# EAGLE library part USB_MICRO (library Puffin)
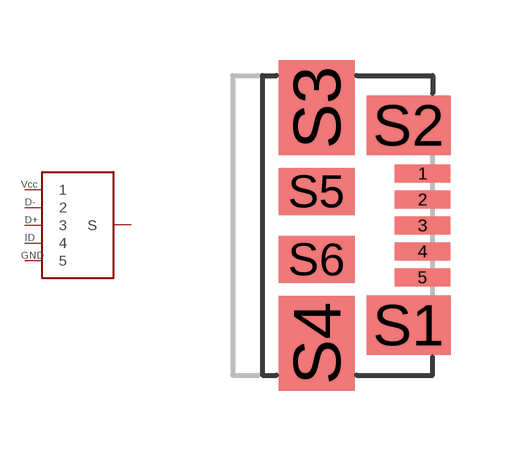
[diagram p9: symbol with the pads of USB_MICROB_MOLEX; footprint USB_MICROB_MOLEX]

Designator prefix -

## USB_MICRO  [USB_MICROB_MOLEX]
1  1  sup
2  2
3  3
4  4  pas
5  5  sup
S1  S
S2  S
S3  S
S4  S
S5  S
S6  S

## Footprint USB_MICROB_MOLEX (pad centres in mm)
smd 1.38 x 0.45: 1 2.65,1.3; 2 2.65,0.65; 3 2.65,0; 4 2.65,-0.65; 5 2.65,-1.3
smd 2.1 x 1.48: S1 2.3,-2.5; S2 2.3,2.5
smd 1.9 x 2.375: S3 0,2.95; S4 0,-2.95
smd 1.9 x 1.175: S5 0,0.85; S6 0,-0.85